# Altium schematic symbol library LimeMicroAltiumLib_schLib.SchLib: 177 symbols (part 8 of 8)
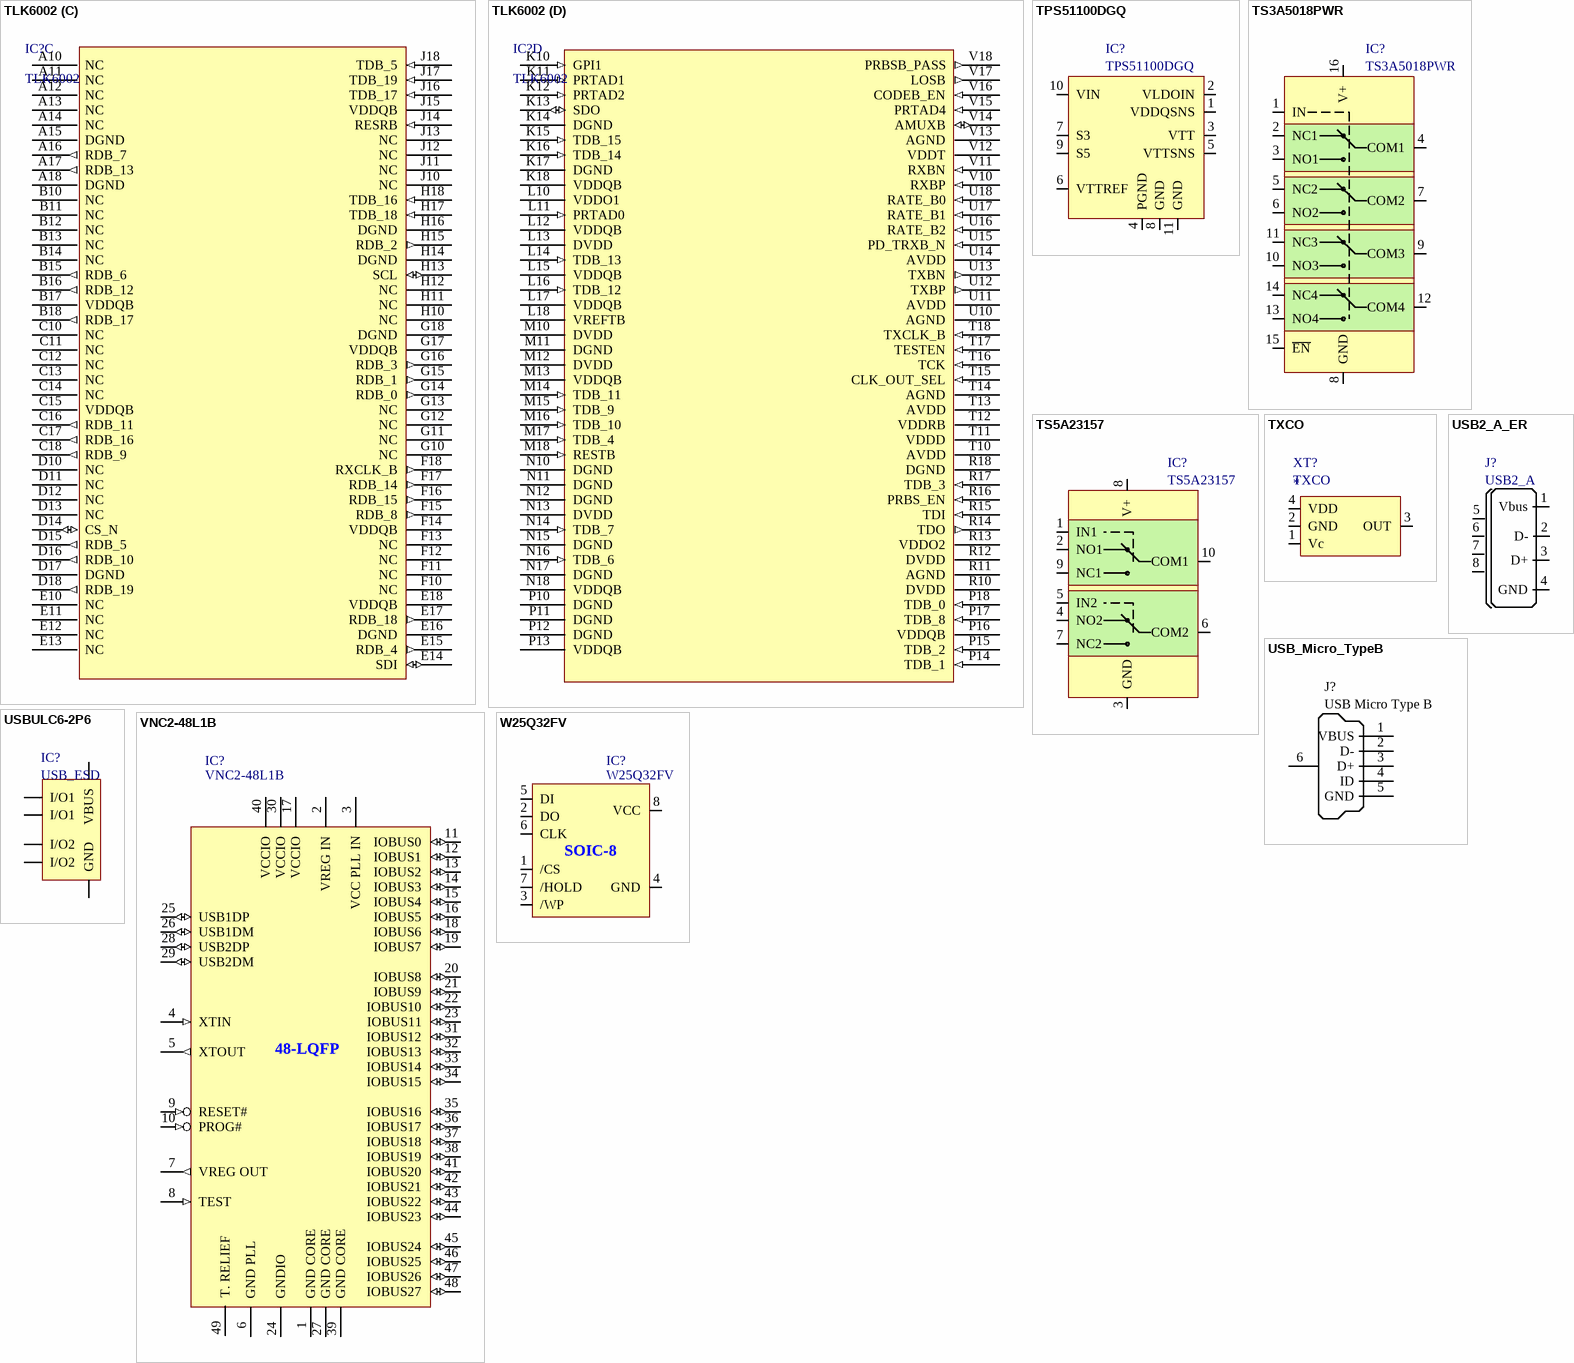
[diagram p42: symbols TLK6002 to W25Q32FV]

## TLK6002
designator IC?
Manufacturer: Texas Instruments; Manufacturer Part Number: TLK6002ZEU; Voltage - Supply: 1.5 V, 1.8 V; Number of Drivers/Receivers: 2/2; Duplex: Full; Protocol: Gigabit Ethernet; Supplier 1: Digi-Key; Type: Transceiver; Packaging: Tray; RoHS: RoHS Compliant; Category: Integrated Circuits (ICs); Operating Temperature: -40°C ~ 85°C; Mounting Type: Surface Mount; Package / Case: 324-BGA; Supplier Device Package: 324-BGA; Data Rate: -; Receiver Hysteresis: -; Supplier Part Number 1: 296-27459-5-ND
footprint TLK6002
part A pins: A1 DGND (power), A2 RDA_12 (out), A3 VDDQA (power), A4 DGND (power), A5 REFCLK_0N (in), A6 DGND (power), A7 NC, A8 NC, A9 NC, B1 RDA_17 (out), B2 VDDQA (power), B3 RDA_18 (out), B4 DGND (power), B5 REFCLK_0P (in), B6 DGND (power), B7 NC, B8 NC, B9 NC, C1 RDA_9 (out), C2 RDA_16 (out), C3 RDA_11 (out), C4 VDDQA (power), C5 DGND (power), C6 REFCLK_1P (in), C7 NC, C8 NC, C9 NC, D1 RDA_19 (out), D2 DGND (power), D3 RDA_10 (out), D4 RDA_7 (out), D5 DGND (power), D6 REFCLK_1N (in), D7 NC, D8 NC, D9 NC, E1 VDDQA (power), E2 RDA_15 (out), E3 DGND (power), E4 RDA_6 (out), E5 RDA_2 (out), E6 NC, E7 NC, E8 NC, E9 NC, F1 RXCLK_A (out), F2 RDA_14 (out), F3 RDA_13 (out), F4 RDA_8 (out), F5 VDDQA (power), F6 NC, F7 NC, F8 NC, F9 NC, G1 DGND (power), G2 VDDQA (power), G3 RDA_4 (out), G4 RDA_5 (out), G5 RDA_0 (out), G6 NC, G7 NC, G8 NC, G9 NC, H1 TDA_19 (in), H2 TDA_17 (in), H3 DGND (power), H4 RDA_3 (out), H5 RDA_1 (out), H6 NC, H7 NC, H8 NC, H9 NC, J1 TDA_14 (in), J2 TDA_15 (in), J3 TDA_18 (in), J4 VDDQA (power), J5 DGND (power), J6 CLK_OUT_P (out), J7 CLK_OUT_N (out), J8 NC, J9 NC
part B pins: K1 VDDQA (power), K2 DGND (power), K3 TDA_8 (in), K4 TDA_16 (in), K5 TDA_13 (in), K6 DGND (power), K7 NC, K8 RESRA (in), K9 VPP (power), L1 VREFTA (power), L2 DGND (power), L3 TDA_12 (in), L4 VDDQA (power), L5 TDA_11 (in), L6 DVDD (power), L7 VDDQA (power), L8 VDDQA (power), L9 DVDD (power), M1 RESTA (in), M2 TDA_5 (in), M3 TDA_10 (in), M4 TDA_9 (in), M5 TDA_7 (in), M6 VDDQA (power), M7 DGND (power), M8 PRTAD3 (in), M9 DGND (power), N1 VDDQA (power), N2 DGND (power), N3 TDA_6 (in), N4 DGND (power), N5 TDA_2 (in), N6 DVDD (power), N7 DGND (power), N8 DGND (power), N9, P1 TXCLK_A (in), P2 TDA_4 (in), P3 VDDQA (power), P4 TDA_3 (in), P5 TDA_0 (in), P6 VDDQA (power), P7 DGND (power), P8 DGND (power), P9 DGND (power), R1 DGND (power), R2 TDA_1 (in), R3 TMS (in), R4 GPI0 (in), R5 DGND (power), R6 REFCLK_A_SEL (in), R7 VDDO3 (power), R8 DVDD (power), R9 AGND (power), T1 MDC (in), T2 REFCLK_B_SEL (in), T3 TERST_N (in), T4 RATE_A1 (in), T5 DVDD (power), T6 PD_TRXA_N (in), T7 VDDRA (power), T8 VDDD (power), T9 AVDD (power), U1 DGND (power), U2 MDIO (io), U3 RATE_A0 (in), U4 LOSA (out), U5 AMUXA (io), U6 AVDD (power), U7 AGND (power), U8 RXAN (in), U9 RXAP (in), V1 RESET_N (in), V2 RATE_A2 (in), V3 PRBSA_PASS (out), V4 CODEA_EN (in), V5 AGND (power), V6 TXAN (out), V7 TXAP (out), V8 VDDT (power), V9 AGND (power)
part C pins: A10 NC, A11 NC, A12 NC, A13 NC, A14 NC, A15 DGND (power), A16 RDB_7 (out), A17 RDB_13 (out), A18 DGND (power), B10 NC, B11 NC, B12 NC, B13 NC, B14 NC, B15 RDB_6 (out), B16 RDB_12 (out), B17 VDDQB (power), B18 RDB_17 (out), C10 NC, C11 NC, C12 NC, C13 NC, C14 NC, C15 VDDQB (power), C16 RDB_11 (out), C17 RDB_16 (out), C18 RDB_9 (out), D10 NC, D11 NC, D12 NC, D13 NC, D14 CS_N (io), D15 RDB_5 (out), D16 RDB_10 (out), D17 DGND (power), D18 RDB_19 (out), E10 NC, E11 NC, E12 NC, E13 NC, E14 SDI (io), E15 RDB_4 (out), E16 DGND (power), E17 RDB_18 (out), E18 VDDQB (power), F10 NC, F11 NC, F12 NC, F13 NC, F14 VDDQB (power), F15 RDB_8 (out), F16 RDB_15 (out), F17 RDB_14 (out), F18 RXCLK_B (out), G10 NC, G11 NC, G12 NC, G13 NC, G14 RDB_0 (out), G15 RDB_1 (out), G16 RDB_3 (out), G17 VDDQB (power), G18 DGND (power), H10 NC, H11 NC, H12 NC, H13 SCL (io), H14 DGND (power), H15 RDB_2 (out), H16 DGND (power), H17 TDB_18 (in), H18 TDB_16 (in), J10 NC, J11 NC, J12 NC, J13 NC, J14 RESRB (in), J15 VDDQB (power), J16 TDB_17 (in), J17 TDB_19 (in), J18 TDB_5 (in)
part D pins: K10 GPI1 (in), K11 PRTAD1 (in), K12 PRTAD2 (in), K13 SDO (io), K14 DGND (power), K15 TDB_15 (in), K16 TDB_14 (in), K17 DGND (power), K18 VDDQB (power), L10 VDDO1 (power), L11 PRTAD0 (in), L12 VDDQB (power), L13 DVDD (power), L14 TDB_13 (in), L15 VDDQB (power), L16 TDB_12 (in), L17 VDDQB (power), L18 VREFTB (power), M10 DVDD (power), M11 DGND (power), M12 DVDD (power), M13 VDDQB (power), M14 TDB_11 (in), M15 TDB_9 (in), M16 TDB_10 (in), M17 TDB_4 (in), M18 RESTB (in), N10 DGND (power), N11 DGND (power), N12 DGND (power), N13 DVDD (power), N14 TDB_7 (in), N15 DGND (power), N16 TDB_6 (in), N17 DGND (power), N18 VDDQB (power), P10 DGND (power), P11 DGND (power), P12 DGND (power), P13 VDDQB (power), P14 TDB_1 (in), P15 TDB_2 (in), P16 VDDQB (power), P17 TDB_8 (in), P18 TDB_0 (in), R10 DVDD (power), R11 AGND (power), R12 DVDD (power), R13 VDDO2 (power), R14 TDO (out), R15 TDI (in), R16 PRBS_EN (in), R17 TDB_3 (in), R18 DGND (power), T10 AVDD (power), T11 VDDD (power), T12 VDDRB (power), T13 AVDD (power), T14 AGND (power), T15 CLK_OUT_SEL (in), T16 TCK (in), T17 TESTEN (in), T18 TXCLK_B (in), U10 AGND (power), U11 AVDD (power), U12 TXBP (out), U13 TXBN (out), U14 AVDD (power), U15 PD_TRXB_N (in), U16 RATE_B2 (in), U17 RATE_B1 (in), U18 RATE_B0 (in), V10 RXBP (in), V11 RXBN (in), V12 VDDT (power), V13 AGND (power), V14 AMUXB (io), V15 PRTAD4 (in), V16 CODEB_EN (in), V17 LOSB (out), V18 PRBSB_PASS (out)

## TPS51100DGQ
designator IC?
Voltage - Output: 1.2 V ~ 3.6 V; Voltage - Input: 4.75 V ~ 5.25 V; Supplier 1: Digi-Key; Package / Case: 10-TFSOP, 10-MSOP (0.118", 3.00mm Width) Exposed Pad; Operating Temperature: -40°C ~ 85°C; Category: Integrated Circuits (ICs); Supplier Part Number 1: 296-23595-6-ND
footprint TPS51100DGQ (TSSOP, 10-Leads, Body 3,00x3,00mm, Pitch 0,50mm, IPC Medium Density)
pins: 1 VDDQSNS, 2 VLDOIN, 3 VTT, 4 PGND, 5 VTTSNS, 6 VTTREF, 7 S3 (in), 8 GND, 9 S5 (in), 10 VIN, 11 GND

## TS3A5018PWR
designator IC?
Manufacturer: TEXAS INSTRUMENTS; On State Resistance Max: 10; Analog Switch Case: TSSOP; Supply Voltage Range: 2.3V to 3.6; No. of Pins: 16; Analog Switch Type: SPDT; Supplier 1: Newark; Manufacturer Part Number: TS3A5018PW; Supplier Part Number 1: 71J8329
footprint TS3A5018PWR (TSOP, 16-Leads, Body 5,00x4,40mm, Pitch 0,65mm, IPC Medium Density)
pins: 1 IN, 2 NC1, 3 NO1, 4 COM1, 5 NC2, 6 NO2, 7 COM2, 8 GND, 9 COM3, 10 NO3, 11 NC3, 12 COM4, 13 NO4, 14 NC4, 15 ~{EN}, 16 V+

## TS5A23157
designator IC?
TS3A5018; Manufacturer: Texas Instruments; Current - Supply: 1µA; Circuit: 2 x SPDT; On-State Resistance: 10 Ohm; Voltage Supply Source: Single Supply; Voltage - Supply, Single/Dual (±): 1.8 V ~ 5.5 V; Function: Switch; Supplier 1: Digi-Key; Category: Integrated Circuits (ICs); Supplier Device Package: 10-VSSOP; Package / Case: 10-TFSOP, 10-MSOP (0.118", 3.00mm Width); Mounting Type: Surface Mount; Supplier Part Number 1: 296-17076-1-ND
footprint TS5A23157 (TSSOP, 10-Leads, Body 3,00x3,00mm, Pitch 0,50mm, IPC Medium Density)
pins: 1 IN1, 2 NO1, 3 GND, 4 NO2, 5 IN2, 6 COM2, 7 NC2, 8 V+, 9 NC1, 10 COM1

## TXCO
designator XT?
Assembly Info: *
pins: 1 Vc, 2 GND, 3 OUT, 4 VDD

## USB2_A_ER
designator J?, comment USB2_A
Manufacturer Part Number: A-USB/2-A-E-R; Connector Type: USB - A; Specifications: USB 2.0; Number of Contacts: 4; Supplier 1: Digi-Key; Category: Connectors, Interconnects; Supplier Part Number 1: AE10400-ND
footprint USB2_A
pins: 1 Vbus, 2 D-, 3 D+, 4 GND, 5 Shell, 6 Shell, 7 Shell, 8 Shell

## USB_Micro_TypeB
designator J?, comment USB Micro Type B
Connector SMD USB Micro Type B; Connector Type: USB - micro B; Number of Contacts: 5; Supplier 1: Digi-Key; Category: Connectors, Interconnects; Mounting Type: Surface Mount, Right Angle, Horizontal; Supplier Part Number 1: 609-4616-2-ND
footprint microUSB
pins: 1 VBUS, 2 D-, 3 D+, 4 ID, 5 GND, 6 Shell

## USBULC6-2P6
designator IC?, comment USB_ESD
Manufacturer Part Number 1: USBULC6-2P6; Manufacturer: STMicroelectronics; Current - Peak Pulse (10/1000µs): 5A (8/20µs); Capacitance @ Frequency: 1pF @ 1MHz; Bidirectional Channels: 2; Voltage - Reverse Standoff (Typ): 5V; Voltage - Breakdown (Min): 6V; Power Line Protection: Yes; Voltage - Clamping (Max) @ Ipp: 17V; Supplier 1: Digi-Key; Unidirectional Channels: -; Mounting Type: Surface Mount; Applications: Ethernet; Type: Steering (Rail to Rail); Power - Peak Pulse: -; Category: Circuit Protection; Supplier Device Package: SOT-666; Package / Case: SOT-563, SOT-666; Packaging: Cut Tape (CT); Operating Temperature: -; RoHS: RoHS Compliant; Supplier Part Number 1: 497-15162-1-ND
footprint USBULC6
pins: 1 I/O1, 2 GND, 3 I/O2, 4 I/O2, 5 VBUS, 6 I/O1

## VNC2-48L1B
designator IC?
Manufacturer Part Number: VNC2-48L1B-REEL; Manufacturer: FTDI, Future Technology Devices International Ltd; Current - Supply: 25mA; Voltage - Supply: 1.62 V ~ 1.98 V; Interface: SPI, UART; Standards: USB 2.0; Function: Controller; Supplier 1: Digi-Key; Supplier Device Package: 48-LQFP (7x7); Category: Integrated Circuits (ICs); Supplier: Digi-Key; Supplier Part Number 1: 768-1049-2-ND
footprint VNC2-48L1B_LQFP48 (VNC2-48L1B chip with LQFP-48 package)
pins: 1 GND CORE (power), 2 VREG IN (power), 3 VCC PLL IN (power), 4 XTIN (in), 5 XTOUT (out), 6 GND PLL (power), 7 VREG OUT (out), 8 TEST (in), 9 RESET# (in), 10 PROG# (in), 11 IOBUS0 (io), 12 IOBUS1 (io), 13 IOBUS2 (io), 14 IOBUS3 (io), 15 IOBUS4 (io), 16 IOBUS5 (io), 17 VCCIO (power), 18 IOBUS6 (io), 19 IOBUS7 (io), 20 IOBUS8 (io), 21 IOBUS9 (io), 22 IOBUS10 (io), 23 IOBUS11 (io), 24 GNDIO (power), 25 USB1DP (io), 26 USB1DM (io), 27 GND CORE (power), 28 USB2DP (io), 29 USB2DM (io), 30 VCCIO (power), 31 IOBUS12 (io), 32 IOBUS13 (io), 33 IOBUS14 (io), 34 IOBUS15 (io), 35 IOBUS16 (io), 36 IOBUS17 (io), 37 IOBUS18 (io), 38 IOBUS19 (io), 39 GND CORE (power), 40 VCCIO (power), 41 IOBUS20 (io), 42 IOBUS21 (io), 43 IOBUS22 (io), 44 IOBUS23 (io), 45 IOBUS24 (io), 46 IOBUS25 (io), 47 IOBUS26 (io), 48 IOBUS27 (io), 49 T. RELIEF (power)
text: 48-LQFP

## W25Q32FV
designator IC?
Manufacturer: Winbond Electronics; Manufacturer Part Number 1: W25Q32FVSSIG; Voltage - Supply: 2.7 V ~ 3.6 V; Interface: SPI Serial; Memory Type: FLASH; Speed: 104MHz; Memory Size: 32M (4M x 8); Supplier 1: Digi-Key; Package / Case: 8-SOIC (0.209", 5.30mm Width); RoHS: RoHS Compliant; Packaging: Tube; Format - Memory: FLASH; Supplier Device Package: 8-SOIC; Operating Temperature: -40°C ~ 85°C; Category: Integrated Circuits (ICs); Supplier Part Number 1: W25Q32FVSSIG-ND
footprint M25P40-VMN6TPB_SO8N (SOIC, 8-Leads, Body 4,90x3,90mm, Pitch 1,27mm, IPC Medium Density)
pins: 1 /CS, 2 DO, 3 /WP, 4 GND, 5 DI, 6 CLK, 7 /HOLD, 8 VCC
text: SOIC-8